# EAGLE library part MAX2614 (library misc)
RF Amplifier IC General Purpose 40MHz ~ 4GHz 8-TDFN (2x3)
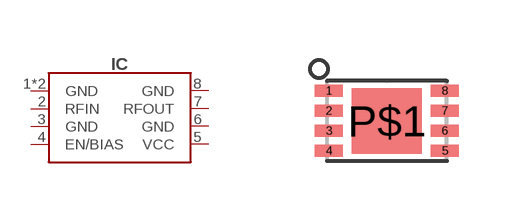
[diagram p2: symbol with the pads of TDFN-8(2X3); footprint TDFN-8(2X3)]

Designator prefix IC

## MAX2614 (DIGIKEY#: MAX2614ETA+T-ND; MANF: Maxim Integrated; MANF#: MAX2614ETA+T)  [TDFN-8(2X3)]
1  GND
2  RFIN
3  GND
4  EN/BIAS
5  VCC
6  GND
7  RFOUT
8  GND
P$1  GND

## Footprint TDFN-8(2X3) (pad centres in mm)
Drawing <https://pdfserv.maximintegrated.com/land_patterns/90-0091.PDF>
smd 0.7 x 0.3: 1 -1.45,0.75; 2 -1.45,0.25; 3 -1.45,-0.25; 4 -1.45,-0.75; 5 1.45,-0.75; 6 1.45,-0.25; 7 1.45,0.25; 8 1.45,0.75
smd 1.75 x 1.63: P$1 0,0